# Altium schematic symbol library WiFi-Vista_NW.SchLib: 1 symbol
Pins are listed as number, name and electrical type; pins without a type are passive.

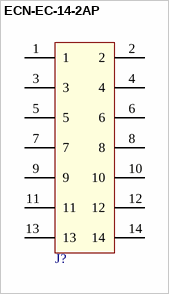
[diagram p0: symbol ECN-EC-14-2AP]

## ECN-EC-14-2AP
designator J?, comment 14-pin Castellated Board-Edge Connectors  (value not drawn)
Manufacturer: Tag-Connect; Manufacturer Part Number: EC-14-2AP; Internal Part Number: ECN-EC-14-2AP; Component Height (mm): 9.3mm; Part Type: 14-pin Castellated Board-Edge Connectors; Temp Co: *; 4th Auxiliary Field: *; Vendor Name: Tag-Connect
footprint PROGRAM_TC2070-CLIP
pins: 1, 2, 3, 4, 5, 6, 7, 8, 9, 10, 11, 12, 13, 14